# Altium footprint library LED.PcbLib: 35 footprints (part 3 of 3)
Each footprint in its own frame and in the unit in brackets; x right, y up, seen from the top. Pads: shape width x height; smd on the part's side, far side on the other; paste and mask are expansions set on the pad; w line width, h text height; cw(c..) or ccw(c..) is an arc to the next point about the centre after c.
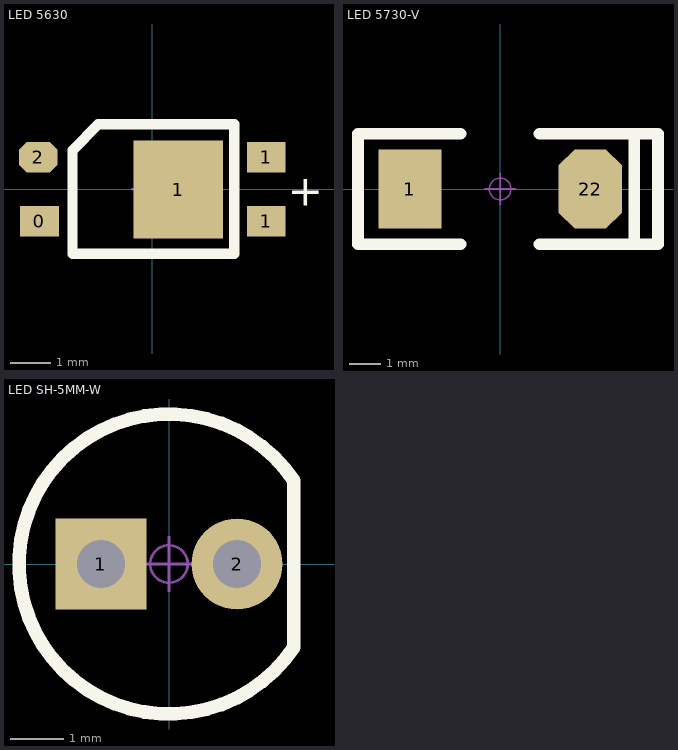
[diagram p2: the footprints below, top view; thin cyan lines are the x and y axes]

## LED 5630 [mm] "白色5630LED"
pads (5):
  rect 0.95x0.75 smd: 0(-2.769,-0.781) 1(2.794,-0.781) 1(2.794,0.781)
  rect 2.2x2.4 smd: 1(0.635,-0.006)
  oct 0.95x0.75 smd: 2(-2.794,0.781)
Top Overlay:
  lines w0.254: -1.956,-1.581 2.007,-1.581 2.007,1.594 -1.321,1.594 -1.956,0.959 -1.956,-1.581
  text "+" at 3.327,-0.4 h0.76
Mechanical 15:
  circle w0.05: c0,0 r0.35
  lines w0.05: -0.5,0 0.5,0 ; 0,-0.5 0,0.5
3D body: height 0.95, standoff 0.05, extent -2.9,-1.5 2.9,1.5
3D body: height 0.95, standoff 0.6, extent -2.395,-1.395 2.395,1.395

## LED 5730-V [mil] "紫色5730LED"
pads (2):
  rect 80x100 smd: 1(-114.17,0)
  oct 80x100 smd: 22(114.17,0)
Top Overlay:
  lines w15: -50,-70 -180,-70 -180,70 -50,70 ; 50,-70 170,-70 ; 50,70 170,70 170,-70 ; 165,70 200,70 200,-70 170,-70
Mechanical 15:
  circle w1.97: c0,0 r13.78
  lines w1.97: -19.68,0 19.68,0 ; 0,-19.68 0,19.68
3D body: height 33.46, standoff 0, extent -112.21,-59.06 112.2,59.05

## LED SH-5MM-W [mm] "白色5mm草帽，直插LED"
height 10.16
pads (2):
  rect 1.7x1.7 hole 0.9: 1(-1.27,0)
  round 1.7 hole 0.9: 2(1.27,0)
Top Overlay:
  lines w0.254: 2.33,-1.553 cw(c0,0) 2.33,1.553 2.33,-1.553
Mechanical 15:
  circle w0.05: c0,0 r0.35
  lines w0.05: -0.5,0 0.5,0 ; 0,-0.5 0,0.5
3D body: height 4.85, standoff 0.05, extent -2.75,-2.75 2.41,2.75
3D body: height 3.42, standoff -3.45, extent -1.584,-0.745 1.535,0.755